# EAGLE library part 8PIN (library JST_ePH)
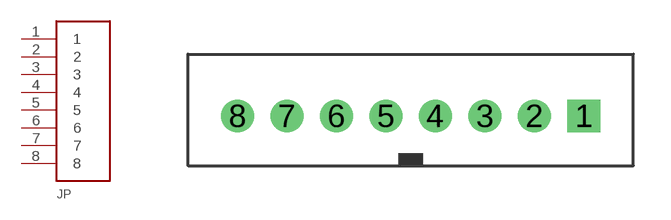
[diagram p2: symbol with the pads of B8B-PH-K-S; footprint B8B-PH-K-S]

Designator prefix JP

## 8PIN  [B8B-PH-K-S]
1  1
2  2
3  3
4  4
5  5
6  6
7  7
8  8

## Footprint B8B-PH-K-S (pad centres in mm)
drill 0.813 square: 1 7,0
drill 0.813 round: 2 5,0; 3 3,0; 4 1,0; 5 -1,0; 6 -3,0; 7 -5,0; 8 -7,0